# Altium schematic symbol library agfa other components.SCHLIB: 26 symbols
Pins are listed as number, name and electrical type; pins without a type are passive.

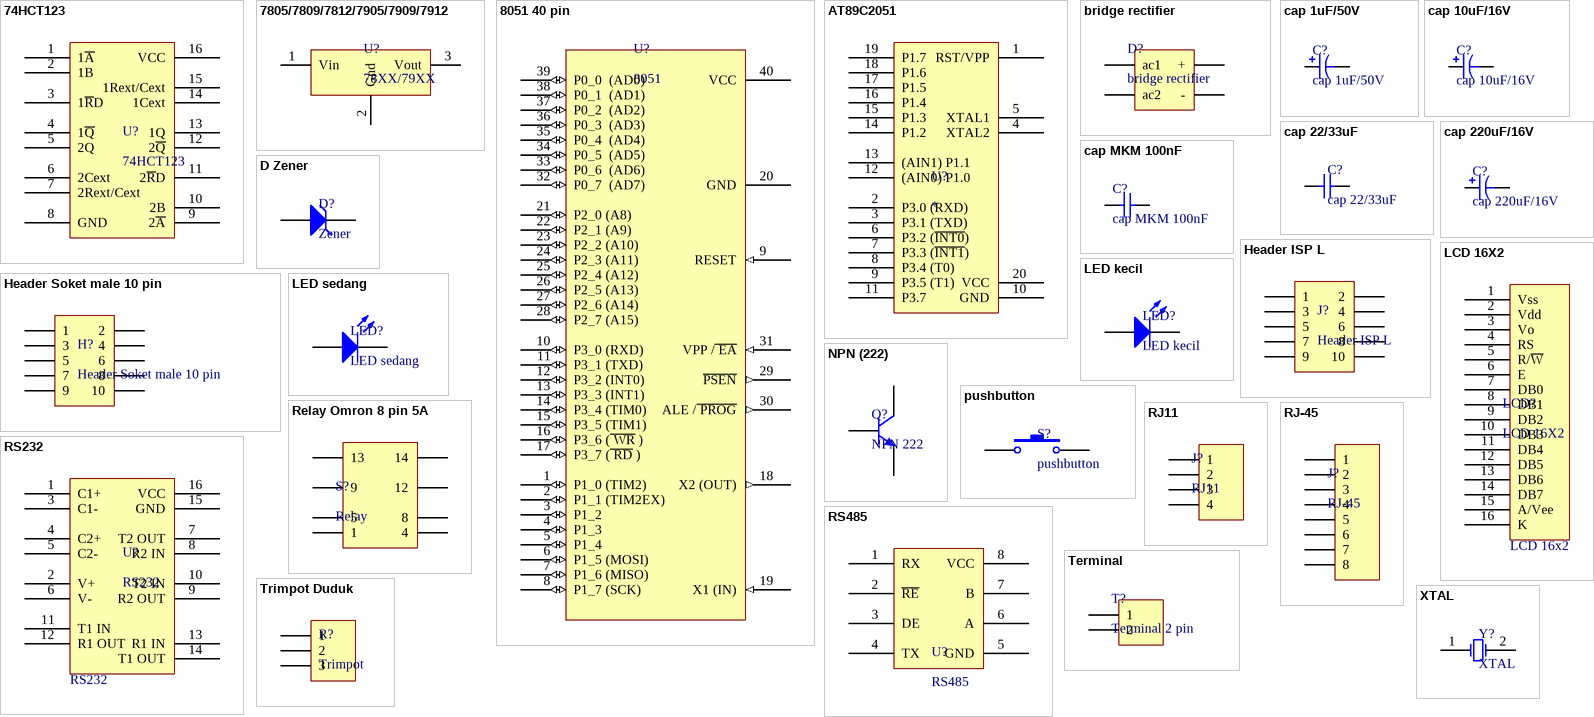
[diagram p0: symbols 74HCT123 to XTAL]

## 74HCT123
designator U?
footprint DIP16
pins: 1 1~{A}, 2 1B, 3 1~{R}D, 4 1~{Q}, 5 2Q, 6 2Cext, 7 2Rext/Cext, 8 GND, 9 2~{A}, 10 2B, 11 2~{R}D, 12 2~{Q}, 13 1Q, 14 1Cext, 15 1Rext/Cext, 16 VCC

## 7805/7809/7812/7905/7909/7912
designator U?, comment 78XX/79XX
footprint 78XX/79XX
footprint 78XX/79XX diri
pins: 1 Vin, 2 Gnd, 3 Vout

## 8051 40 pin
designator U?, comment 8051
footprint 8051 40 pin
pins: 1 P1_0 (TIM2) (io) "PORT 1 BIT 0 OR TIM2", 2 P1_1 (TIM2EX) (io) "PORT 1 BIT 1 OR TIM2 EX", 3 P1_2 (io) "PORT 1 BIT 2", 4 P1_3 (io) "PORT 1 BIT 3", 5 P1_4 (io) "PORT 1 BIT 4", 6 P1_5 (MOSI) (io) "PORT 1 BIT 5 OR MOSI", 7 P1_6 (MISO) (io) "PORT 1 BIT 6 OR MISO", 8 P1_7 (SCK) (io) "PORT 1 BIT 7 OR SCK", 9 RESET (in) "RESET IN", 10 P3_0 (RXD) (io) "PORT 3 BIT 0 OR RXD", 11 P3_1 (TXD) (io) "PORT 3 BIT 1 OR TXD", 12 P3_2 (INT0) (io) "PORT 3 BIT 2 OR INT0", 13 P3_3 (INT1) (io) "PORT 3 BIT 3 OR INT1", 14 P3_4 (TIM0) (io) "PORT 3 BIT 4 OR TIM0", 15 P3_5 (TIM1) (io) "PORT 3 BIT 5 OR TIM1", 16 P3_6 (~{ WR} ) (io) "PORT 3 BIT 6 OR /WR", 17 P3_7 (~{ RD} ) (io) "PORT 3 BIT 7 OR /RD", 18 X2 (OUT) (out) "CLCOK OSC OUT", 19 X1 (IN) (in) "XTAL 1 OR CLK INPUT", 20 GND (power) "POWER GND", 21 P2_0 (A8) (io) "PORT 2 BIT 0 OR A8", 22 P2_1 (A9) (io) "PORT 2 BIT 1 OR A9", 23 P2_2 (A10) (io) "PORT 2 BIT 2 OR A10", 24 P2_3 (A11) (io) "PORT 2 BIT 3 OR A11", 25 P2_4 (A12) (io) "PORT 2 BIT 4 OR A12", 26 P2_5 (A13) (io) "PORT 2 BIT 5 OR A13", 27 P2_6 (A14) (io) "PORT 2 BIT 6 OR A14", 28 P2_7 (A15) (io) "PORT 2 BIT 7 OR A15", 29 ~{PSEN} (out) "PROG STORE ENABLE", 30 ALE /~{ PROG} (out) "ALE / PROG PULSE IN", 31 VPP /~{ EA} (in) "EX ACCESS ENABLE OR VPP IN", 32 P0_7  (AD7) (io) "PORT 0 BIT 0  (AD7)", 33 P0_6  (AD6) (io) "PORT 0 BIT 0  (AD6)", 34 P0_5  (AD5) (io) "PORT 0 BIT 0  (AD5)", 35 P0_4  (AD4) (io) "PORT 0 BIT 0  (AD4)", 36 P0_3  (AD3) (io) "PORT 0 BIT 0  (AD3)", 37 P0_2  (AD2) (io) "PORT 0 BIT 0  (AD2)", 38 P0_1  (AD1) (io) "PORT 0 BIT 0  (AD1)", 39 P0_0  (AD0) (io) "PORT 0 BIT 0  (AD0)", 40 VCC (power) "VCC 5V NOMINAL"

## AT89C2051
designator U?
footprint DIP20
pins: 1 RST/VPP, 2 P3.0 (RXD), 3 P3.1 (TXD), 4 XTAL2, 5 XTAL1, 6 P3.2 (~{INT0}), 7 P3.3 (~{INT1}), 8 P3.4 (T0), 9 P3.5 (T1), 10 GND, 11 P3.7, 12 (AIN0) P1.0, 13 (AIN1) P1.1, 14 P1.2, 15 P1.3, 16 P1.4, 17 P1.5, 18 P1.6, 19 P1.7, 20 VCC

## bridge rectifier
designator D?
footprint Bridge Rectifier
pins: 1 +, 2 ac1, 3 -, 4 ac2

## cap 1uF/50V
designator C?
footprint cap 1uF/50V
pins: 1, 2

## cap 10uF/16V
designator C?
footprint cap 10uF/16V
pins: 1, 2

## cap 22/33uF
designator C?
footprint cap 22/33uF
pins: 1, 2

## cap 220uF/16V
designator C?
footprint cap 220uF/16V
pins: 1, 2

## cap MKM 100nF
designator C?
footprint cap MKM 100nF diri
footprint cap MKM 100nF duduk
pins: 1, 2

## D Zener
designator D?, comment Zener
footprint D Zener
pins: 1 A, 2 K

## Header ISP L
designator J?
footprint Header ISP L
pins: 1, 2, 3, 4, 5, 6, 7, 8, 9, 10

## Header Soket male 10 pin
designator H?
footprint Header Soket male 10 pin
pins: 1, 2, 3, 4, 5, 6, 7, 8, 9, 10

## LCD 16X2
designator LCD?
footprint LCD 16X2
pins: 1 Vss, 2 Vdd, 3 Vo, 4 RS, 5 R/~{W}, 6 E, 7 DB0, 8 DB1, 9 DB2, 10 DB3, 11 DB4, 12 DB5, 13 DB6, 14 DB7, 15 A/Vee, 16 K
text: LCD 16x2

## LED kecil
designator LED?
footprint LED kecil
pins: 1 A, 2 K

## LED sedang
designator LED?
footprint LED sedang
pins: 1 A, 2 K

## NPN (222)
designator Q?, comment NPN 222
footprint NPN (222)
pins: 1 E, 2 B, 3 C

## pushbutton
designator S?
footprint pushbutton
pins: 1, 2

## Relay Omron 8 pin 5A
designator S?, comment Relay
footprint Relay Omron 8 pin 5A
pins: 1, 4, 5, 8, 9, 12, 13, 14

## RJ11
designator J?
footprint RJ11
pins: 1, 2, 3, 4

## RJ-45
designator J?
footprint RJ45_model1
pins: 1, 2, 3, 4, 5, 6, 7, 8

## RS232
designator U?
footprint DIP16
pins: 1 C1+, 2 V+, 3 C1-, 4 C2+, 5 C2-, 6 V-, 7 T2 OUT, 8 R2 IN, 9 R2 OUT, 10 T2 IN, 11 T1 IN, 12 R1 OUT, 13 R1 IN, 14 T1 OUT, 15 GND, 16 VCC

## RS485
designator U?
footprint DIP8
pins: 1 RX, 2 ~{RE}, 3 DE, 4 TX, 5 GND, 6 A, 7 B, 8 VCC

## Terminal
designator T?, comment Terminal 2 pin
footprint Terminal 2 pin
pins: 1, 2

## Trimpot Duduk
designator R?, comment Trimpot
footprint Trimpot Duduk
pins: 1, 2, 3

## XTAL
designator Y?
footprint XTAL
pins: 1 OSC1, 2 OSC2